# Altium footprint library SOT223.PcbLib: 1 footprints
Each footprint in its own frame and in the unit in brackets; x right, y up, seen from the top. Pads: shape width x height; smd on the part's side, far side on the other; paste and mask are expansions set on the pad; w line width, h text height; cw(c..) or ccw(c..) is an arc to the next point about the centre after c.
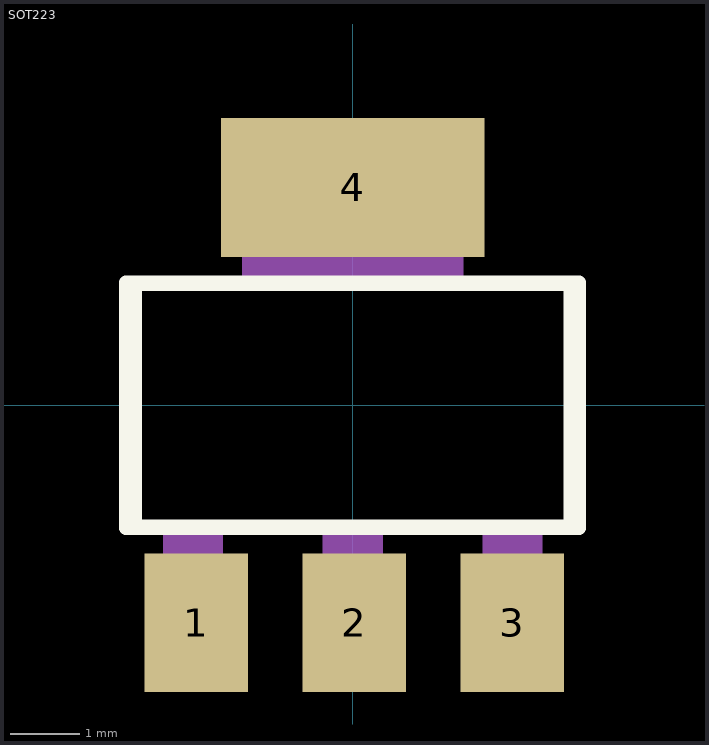
[diagram p0: the footprint, top view; thin cyan lines are the x and y axes]

## SOT223 [mil]
pads (4):
  rect 59x79 smd: 1(-89,-124) 2(1,-124) 3(91,-124)
  rect 150x79 smd: 4(0,124)
Top Overlay:
  lines w6: -122.99,-68.07 -122.99,68.15 122.99,68.15 122.99,-68.07 -122.99,-68.07
  lines w8: -129,-70 129,-70 129,70 -129,70 -129,-70
Mechanical 13:
  region: 60,70 -60,70 -60,130 60,130
  region: -75,-130 -105,-130 -105,-70 -75,-70
  region: 105,-130 75,-130 75,-70 105,-70
  region: 15,-130 -15,-130 -15,-70 15,-70
  region: 63,71 -63,71 -63,144 63,144
  region: 17,-144 -17,-144 -17,-71 17,-71
  region: -74,-144 -108,-144 -108,-71 -74,-71
  region: 108,-144 74,-144 74,-71 108,-71
  region: 63,71 -63,71 -63,144 63,144
  region: 17,-144 -17,-144 -17,-71 17,-71
  region: -74,-144 -108,-144 -108,-71 -74,-71
  region: 108,-144 74,-144 74,-71 108,-71
3D body "step_temp.STEP": height 70.87, standoff 0, extent -137.75,-127.95 137.75,127.95